# Altium footprint library AMS.PcbLib: 1 footprints
Each footprint in its own frame and in the unit in brackets; x right, y up, seen from the top. Pads: shape width x height; smd on the part's side, far side on the other; paste and mask are expansions set on the pad; w line width, h text height; cw(c..) or ccw(c..) is an arc to the next point about the centre after c.
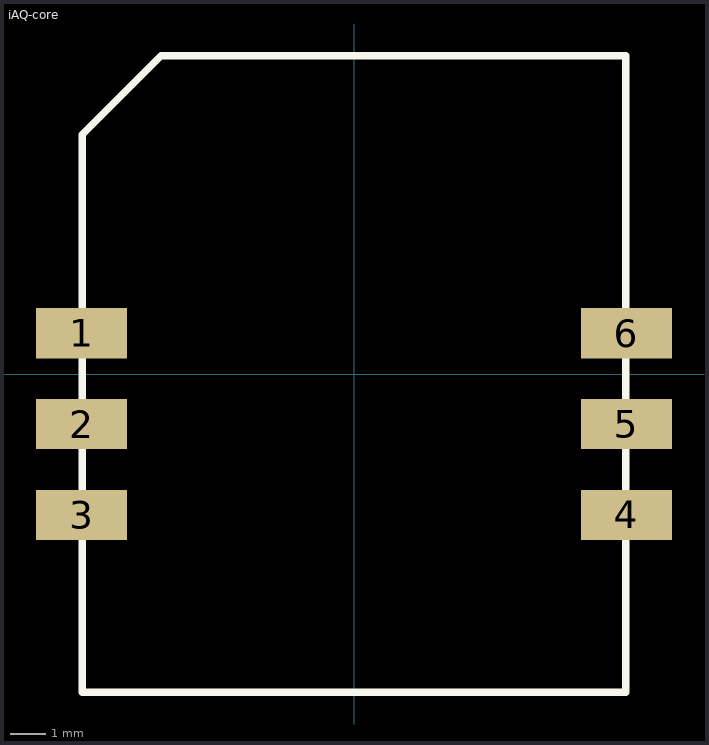
[diagram p0: the footprint, top view; thin cyan lines are the x and y axes]

## iAQ-core [mm] "Air quality sensor"
pads (6):
  rect 2.54x1.4 smd: 1(-7.62,1.14) 2(-7.62,-1.4) 3(-7.62,-3.94) 4(7.62,-3.94) 5(7.62,-1.4) 6(7.62,1.14)
Top Overlay:
  lines w0.2: -7.6,-8.9 -7.6,0 -7.6,6.7 -5.4,8.9 0,8.9 7.6,8.9 7.6,0 7.6,-8.9 0,-8.9 -7.6,-8.9
3D body: height 4.3, standoff 0, extent -7.601,-8.901 7.601,8.901